# Altium footprint library RFD900.PcbLib: 1 footprints
Each footprint in its own frame and in the unit in brackets; x right, y up, seen from the top. Pads: shape width x height; smd on the part's side, far side on the other; paste and mask are expansions set on the pad; w line width, h text height; cw(c..) or ccw(c..) is an arc to the next point about the centre after c.
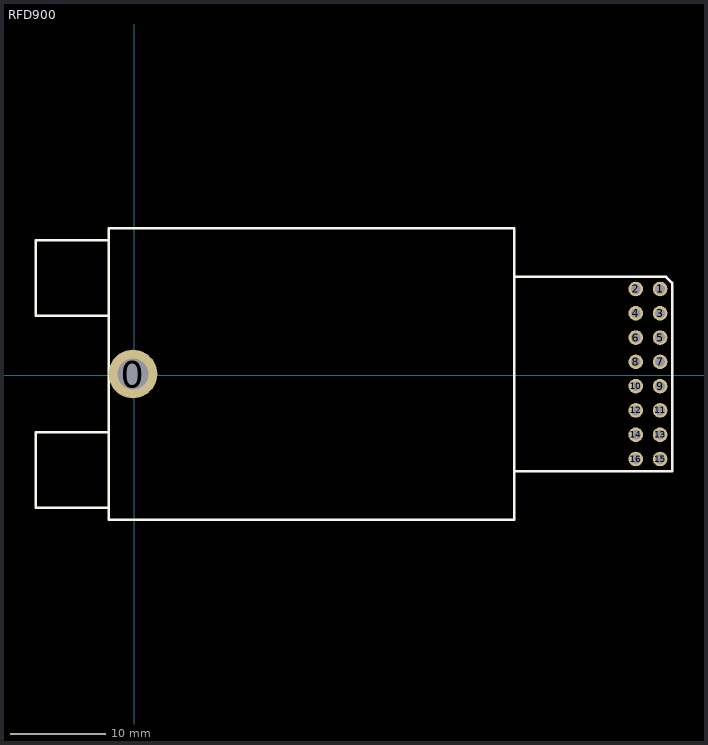
[diagram p0: the footprint, top view; thin cyan lines are the x and y axes]

## RFD900 [mil]
pads (17):
  round 200 hole 125.98: 0(-5,5)
  round 60 hole 40: 1(2165,355) 2(2065,355) 3(2165,255) 4(2065,255) 5(2165,155) 6(2065,155) 7(2165,55) 8(2065,55) 9(2165,-45) 10(2065,-45) 11(2165,-145) 12(2065,-145) 13(2165,-245) 14(2065,-245) 15(2165,-345) 16(2065,-345)
Top Overlay:
  lines w10: -105,-545 -405,-545 -405,-235 -105,-235 ; -105,245 -405,245 -405,555 -105,555 ; 1565,-395 2015,-395 2215,-395 2215,380 2190,405 2040,405 1565,405 ; -105,-595 1565,-595 1565,5 1565,605 -105,605 -105,-595